# Altium schematic symbol library ESDALC6V1-1U2.SchLib: 1 symbol
Pins are listed as number, name and electrical type; pins without a type are passive.

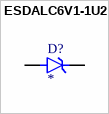
[diagram p0: symbol ESDALC6V1-1U2]

## ESDALC6V1-1U2
designator D?
- Clamp - Ipp Tvs Diode Surface Mount ST0201; MF: STMicroelectronics; MP: ESDALC6V1-1U2; SnapEDA_Link: https://www.snapeda.com/parts/ESDALC6V1-1U2/STMicroelectronics/view-part/?ref=snap; Package: 0201 STMicroelectronics; Value: *; Check_prices: https://www.snapeda.com/parts/ESDALC6V1-1U2/STMicroelectronics/view-part/?ref=eda
footprint DIODE_ESDALC6V1-1U2
pins: 1 K, 2 A